# EAGLE library part TI_BACKLIGHT_DRIVER_TPS61080 (library nhd-4_3-adapter)
LED Controller - INPUT: 2.5V - 6V - OUTPUT: Up to 27V - TYPICAL OUTPUT - INPUT: 5V - 12V @ 400mA - 24V @ 170mA - Short Circuit Protection - 1.2-MHz / 600-kHz Selectable Fixed Switching Frequency - In/Out Isolation - Boost Conversion - 3V - 12V - 5V - 12V - 24V
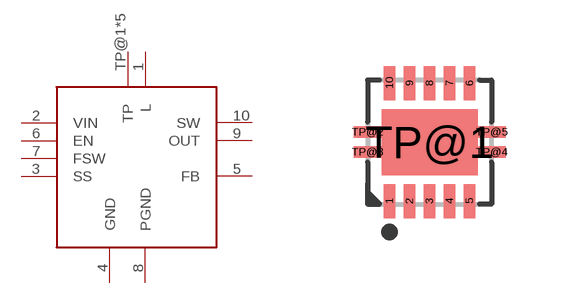
[diagram p2: symbol with the pads of TI_BACKLIGHT_DRIVER_VSON-10; footprint TI_BACKLIGHT_DRIVER_VSON-10]

Designator prefix -

## TI_BACKLIGHT_DRIVER_TPS61080, TI_BACKLIGHT_DRIVER_TPS61080TPS61080, TI_BACKLIGHT_DRIVER_TPS61080TPS61081  [TI_BACKLIGHT_DRIVER_VSON-10]
1  L
2  VIN
3  SS
4  GND
5  FB
6  EN
7  FSW
8  PGND
9  OUT
10  SW
TP@1  TP
TP@2  TP
TP@3  TP
TP@4  TP
TP@5  TP

## Footprint TI_BACKLIGHT_DRIVER_VSON-10 (pad centres in mm)
smd 0.28 x 0.85: 1 -1,-1.475; 2 -0.5,-1.475; 3 0,-1.475; 4 0.5,-1.475; 5 1,-1.475; 6 1,1.475; 7 0.5,1.475; 8 0,1.475; 9 -0.5,1.475; 10 -1,1.475
smd 2.4 x 1.65: TP@1 0,0
smd 0.7 x 0.28: TP@2 -1.55,0.25; TP@3 -1.55,-0.25; TP@4 1.55,-0.25; TP@5 1.55,0.25